# Altium footprint library XTAL.PcbLib: 7 footprints
Each footprint in its own frame and in the unit in brackets; x right, y up, seen from the top. Pads: shape width x height; smd on the part's side, far side on the other; paste and mask are expansions set on the pad; w line width, h text height; cw(c..) or ccw(c..) is an arc to the next point about the centre after c.
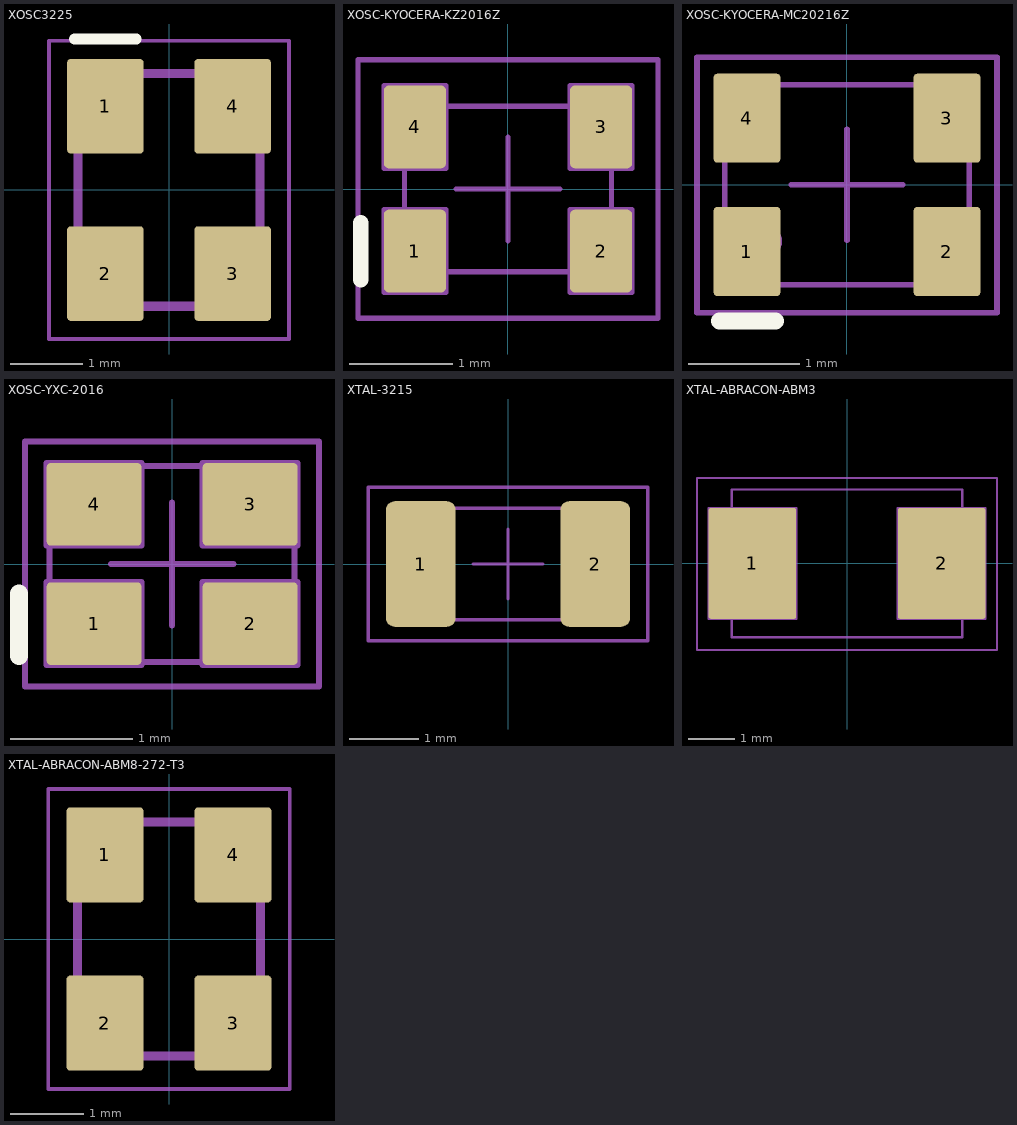
[diagram p0: the footprints below, top view; thin cyan lines are the x and y axes]

## XOSC3225 [mm] "OSCILLATOR, CRYSTAL, 3225 PACKAGE"
pads (4):
  rrect9% 1.05x1.3 smd mask+0.05: 1(-0.875,1.15) 2(-0.875,-1.15) 3(0.875,-1.15) 4(0.875,1.15)
Top Overlay:
  lines w0.15: -1.3,2.075 -0.45,2.075
Top Courtyard:
  lines w0.05: -1.65,-2.05 -1.65,2.05 1.65,2.05 1.65,-2.05 -1.65,-2.05
Top Assembly:
  lines w0.127: -1.25,-1.6 1.25,-1.6 1.25,1.6 -1.25,1.6 -1.25,-1.6
3D body "step_temp.STEP": height 0.7, standoff 0, extent -1.25,-1.6 1.25,1.6

## XOSC-KYOCERA-KZ2016Z [mm]
pads (4):
  rrect16% 0.6x0.8 smd paste+0 mask+0.05: 1(-0.9,-0.6) 2(0.9,-0.6) 3(0.9,0.6) 4(-0.9,0.6)
Top Overlay:
  lines w0.15: -1.425,-0.875 -1.425,-0.325
Top Courtyard:
  lines w0.05: -0.5,0 0,0 ; 0,-0.5 0,0 ; 0,0.5 0,0 ; 0.5,0 0,0 ; -1.45,-1.25 -1.45,1.25 1.45,1.25 1.45,-1.25 -1.45,-1.25
Top Assembly:
  lines w0.05: -1,-0.2 -1,0.8 1,0.8 1,-0.8 -0.6,-0.8 ; -1,0.2 -0.6,0.2 -0.6,1 -1.2,1 -1.2,0.2 -0.9,0.2 ; -1.2,-1 -0.6,-1 -0.6,-0.2 -0.9,-0.2 -1.2,-0.2 -1.2,-1 ; 0.6,-1 1.2,-1 1.2,-0.2 0.9,-0.2 0.6,-0.2 0.6,-1 ; 0.6,0.2 0.6,1 1.2,1 1.2,0.2 0.9,0.2 0.6,0.2
  text "1" at -1.2,-1 h1
3D body "KC2016Z.step": height 0.76, standoff 0.01, extent -1,-0.8 1,0.8

## XOSC-KYOCERA-MC20216Z [mm]
pads (4):
  rrect10% 0.6x0.8 smd paste+0 mask+0.05: 1(-0.9,-0.6) 2(0.9,-0.6) 3(0.9,0.6) 4(-0.9,0.6)
Top Overlay:
  lines w0.15: -1.15,-1.225 -0.642,-1.225
Top Courtyard:
  lines w0.05: -0.5,0 0,0 ; 0,-0.5 0,0 ; 0,0.5 0,0 ; 0.5,0 0,0 ; -1.35,-1.15 1.35,-1.15 1.35,1.15 -1.35,1.15 -1.35,-1.15
Top Assembly:
  circle w0.1: c-0.762,-0.508 r0.127
  lines w0.05: -1.1,-0.9 1.1,-0.9 1.1,0.9 -1.1,0.9 -1.1,-0.9
3D body "MC2016Z.stp": height 0.76, standoff 0.01, extent -1,-0.8 1,0.8

## XOSC-YXC-2016 [mm] "YSO110TR"
pads (4):
  rrect10% 0.775x0.675 smd paste+0 mask+0.05: 1(-0.637,-0.487) 2(0.637,-0.487) 3(0.637,0.487) 4(-0.637,0.487)
Top Overlay:
  lines w0.15: -1.25,-0.75 -1.25,-0.242
Top Courtyard:
  lines w0.05: -0.5,0 0,0 ; 0,-0.5 0,0 ; 0,0.5 0,0 ; 0.5,0 0,0 ; -1.2,-1 1.2,-1 1.2,1 -0.625,1 -1.2,1 -1.2,-1
Top Assembly:
  lines w0.05: -1.015,-0.149 -0.637,-0.149 -0.249,-0.149 -0.249,-0.824 -1.024,-0.824 -1.024,-0.149 -1,-0.149 ; -1.015,0.825 -0.637,0.825 -0.249,0.825 -0.249,0.15 -1.024,0.15 -1.024,0.825 -1,0.825 ; 0.26,-0.149 0.637,-0.149 1.025,-0.149 1.025,-0.824 0.25,-0.824 0.25,-0.149 0.274,-0.149 ; 0.26,0.825 0.637,0.825 1.025,0.825 1.025,0.15 0.25,0.15 0.25,0.825 0.274,0.825 ; -1,-0.8 0,-0.8 1,-0.8 1,0.8 -1,0.8 -1,-0.8
3D body "MC2016Z.stp": height 0.76, standoff 0.01, extent -1,-0.8 1,0.8

## XTAL-3215 [mm] "XTAL 3.2X1.5 2 PIN"
height 0.9
pads (2):
  rrect25% 1x1.8 smd mask+0.05: 1(-1.25,0) 2(1.25,0)
Top Courtyard:
  lines w0.05: -0.5,0 0,0 ; 0,-0.5 0,0 ; 0,0.5 0,0 ; 0.5,0 0,0 ; -2,-1.1 2,-1.1 2,1.1 -2,1.1 -2,-1.1
Top Assembly:
  lines w0.05: -1.6,-0.8 -1.6,0.8 1.6,0.8 1.6,-0.8 -1.6,-0.8
3D body "User Library-NDK_NX3215SA.step": height 0.8, standoff 0, extent -1.6,-0.75 1.6,0.75

## XTAL-ABRACON-ABM3 [mm]
pads (2):
  rrect5% 1.9x2.4 smd mask+0.05: 1(-2.05,0) 2(2.05,0)
Top Courtyard:
  lines w0.05: -3.25,-1.875 -3.25,1.85 3.25,1.85 3.25,-1.875 -3.25,-1.875
Top Assembly:
  lines w0.05: 0,1.6 -2.5,1.6 -2.5,-1.6 2.5,-1.6 2.5,1.6 0,1.6 ; 0,1.6 0,1.6 ; -3,-1.2 -3,1.2 -2.05,1.2 -1.1,1.2 -1.1,-1.2 -3,-1.2 ; 1.1,-1.2 1.1,1.2 2.05,1.2 3,1.2 3,-1.2 1.1,-1.2
3D body "ABM3-18.432MHZ-B2-T.step": height 1.31, standoff 0.01, extent -2.5,-1.6 2.5,1.6

## XTAL-ABRACON-ABM8-272-T3 [mm] "ABM8-272-T3"
pads (4):
  rrect9% 1.05x1.3 smd mask+0.05: 1(-0.875,1.15) 2(-0.875,-1.15) 3(0.875,-1.15) 4(0.875,1.15)
Top Courtyard:
  lines w0.05: -1.65,-2.05 -1.65,2.05 1.65,2.05 1.65,-2.05 -1.65,-2.05
Top Assembly:
  lines w0.127: -1.25,-1.6 1.25,-1.6 1.25,1.6 -1.25,1.6 -1.25,-1.6
3D body "step_temp.STEP": height 0.7, standoff 0, extent -1.25,-1.6 1.25,1.6